# Altium footprint library imx8mnano.PcbLib: 57 footprints (part 2 of 4)
Each footprint in its own frame and in the unit in brackets; x right, y up, seen from the top. Pads: shape width x height; smd on the part's side, far side on the other; paste and mask are expansions set on the pad; w line width, h text height; cw(c..) or ccw(c..) is an arc to the next point about the centre after c.
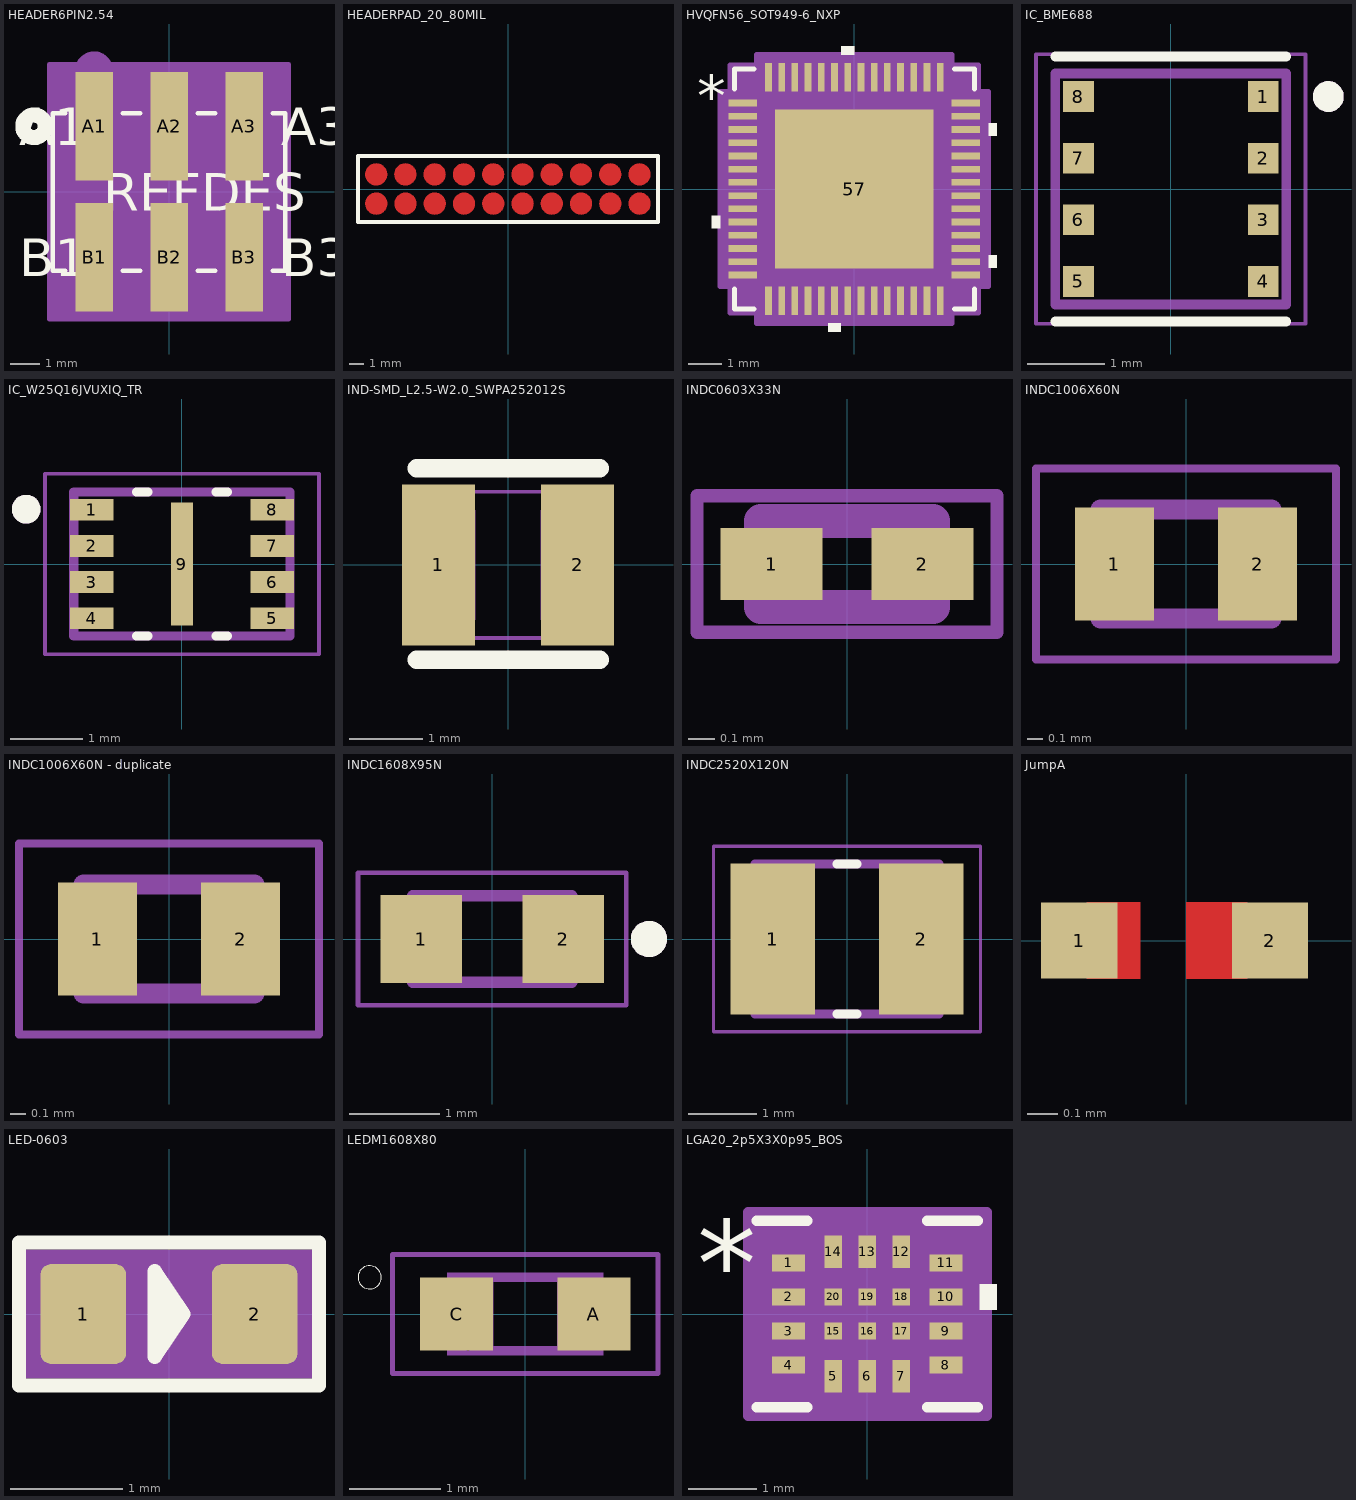
[diagram p1: the footprints below, top view; thin cyan lines are the x and y axes]

## HEADER6PIN2.54 [mil]
pads (6):
  rect 50x145 smd paste+0 mask+0: A1(-100,87.4) A2(0,87.4) A3(100,87.4) B1(-100,-87.4) B2(0,-87.4) B3(100,-87.4)
Top Overlay:
  circle w20: c-180,87.4 r15
  lines w6: -138.1,-105 -155,-105 -155,105 -138.1,105 ; -61.9,-105 -38.1,-105 ; -61.9,105 -38.1,105 ; 38.1,-105 61.9,-105 ; 38.1,105 61.9,105 ; 138.1,-105 155,-105 155,105 138.1,105
  text "A1" at -200,62.4 h50
  text "B1" at -200,-112.4 h50
  text "A3" at 150,62.4 h50
  text "B3" at 150,-112.4 h50
  text "REFDES" at -87.5,-25 h50
Bottom Overlay:
  circle w20: c-180,87.4 r15
  text "A1" at -150,62.4 h50
  text "B1" at -150,-112.4 h50
  text "A3" at 200,62.4 h50
  text "B3" at 200,-112.4 h50
Mechanical 13:
  circle w20: c-100,162.4 r15
  lines w1: -150,-100 150,-100 150,100 -150,100 -150,-100
  text "A1" at -200,62.4 h50
  text "B1" at -200,-112.4 h50
  text "A3" at 150,62.4 h50
  text "B3" at 150,-112.4 h50
  text "RefDes2" at -87.5,-25 h50
Mechanical 15:
  region: 160,169.9 -160,169.9 -160,-169.9 160,-169.9
  region: 150,159.9 -150,159.9 -150,-159.9 150,-159.9
  lines w6: -160,-169.9 -160,169.9 160,169.9 160,-169.9 -160,-169.9
3D body "015910060.stp": height 381, standoff 1, extent -146,-138 154,137

## HEADERPAD_20_80MIL [mil]
pads (20):
  round 1 smd: 1(-360.28,40.45) 2(-280.56,40.45) 3(-200.56,40.45) 4(-120.56,40.45) 5(-40.56,40.45) 6(39.72,40.45) 7(119.44,40.45) 8(199.44,40.45) 9(279.44,40.45) 10(359.44,40.45) 11(-360,-39.55) 12(-280.28,-39.55) 13(-200.28,-39.55) 14(-120.28,-39.55) 15(-40.28,-39.55) 16(40,-39.55) 17(119.72,-39.55) 18(199.72,-39.55) 19(279.72,-39.55) 20(359.72,-39.55)
Top Layer:
  drawing of 20 lines, arcs and shapes, not listed
Top Overlay:
  lines w10: -410,-89.55 410,-89.55 410,90.45 -410,90.45 -410,-89.55

## HVQFN56_SOT949-6_NXP [mil]
pads (57):
  rect 34x8 smd paste+0 mask+0: 1(-133,102.36) 2(-133,86.61) 3(-133,70.87) 4(-133,55.12) 5(-133,39.37) 6(-133,23.62) 7(-133,7.87) 8(-133,-7.87) 9(-133,-23.62) 10(-133,-39.37) 11(-133,-55.12) 12(-133,-70.87) 13(-133,-86.61) 14(-133,-102.36) 29(133,-102.36) 30(133,-86.61) 31(133,-70.87) 32(133,-55.12) 33(133,-39.37) 34(133,-23.62) 35(133,-7.87) 36(133,7.87) 37(133,23.62) 38(133,39.37) 39(133,55.12) 40(133,70.87) 41(133,86.61) 42(133,102.36)
  rect 8x34 smd paste+0 mask+0: 15(-102.36,-133) 16(-86.61,-133) 17(-70.87,-133) 18(-55.12,-133) 19(-39.37,-133) 20(-23.62,-133) 21(-7.87,-133) 22(7.87,-133) 23(23.62,-133) 24(39.37,-133) 25(55.12,-133) 26(70.87,-133) 27(86.61,-133) 28(102.36,-133) 43(102.36,133) 44(86.61,133) 45(70.87,133) 46(55.12,133) 47(39.37,133) 48(23.62,133) 49(7.87,133) 50(-7.87,133) 51(-23.62,133) 52(-39.37,133) 53(-55.12,133) 54(-70.87,133) 55(-86.61,133) 56(-102.36,133)
  rect 189x189 smd paste-94.5 mask+0: 57(0,0)
Top Overlay:
  region: -160,-31.87 -170,-31.87 -170,-46.87 -160,-46.87
  region: -16.12,-160 -31.12,-160 -31.12,-170 -16.12,-170
  region: 160,-79.11 170,-79.11 170,-94.11 160,-94.11
  region: 160,78.37 170,78.37 170,63.37 160,63.37
  region: -0.37,160 -15.37,160 -15.37,170 -0.37,170
  lines w6: -143,-119.46 -143,-143 -119.46,-143 ; -143,119.46 -143,143 -119.46,143 ; 119.46,-143 143,-143 143,-119.46 ; 119.46,143 143,143 143,119.46
  text "*" at -187.5,85.24 h50
Top Paste:
  region: -35.44,90.56 -90.56,90.56 -90.56,35.44 -35.44,35.44
  region: -35.44,27.56 -90.56,27.56 -90.56,-27.56 -35.44,-27.56
  region: -35.44,-35.44 -90.56,-35.44 -90.56,-90.56 -35.44,-90.56
  region: 27.56,90.56 -27.56,90.56 -27.56,35.44 27.56,35.44
  region: 27.56,27.56 -27.56,27.56 -27.56,-27.56 27.56,-27.56
  region: 27.56,-35.44 -27.56,-35.44 -27.56,-90.56 27.56,-90.56
  region: 90.56,90.56 35.44,90.56 35.44,35.44 90.56,35.44
  region: 90.56,27.56 35.44,27.56 35.44,-27.56 90.56,-27.56
  region: 90.56,-35.44 35.44,-35.44 35.44,-90.56 90.56,-90.56
Mechanical 13:
  lines w1: -138,88 -88,138 ; -138,-138 138,-138 138,138 -138,138 -138,-138 ; -138,-107.36 -138,-97.36 -138,-107.36 ; -138,-91.61 -138,-81.61 -138,-91.61 ; -138,-75.87 -138,-65.87 -138,-75.87 ; -138,-60.12 -138,-50.12 -138,-60.12 ; -138,-44.37 -138,-34.37 -138,-44.37 ; -138,-28.62 -138,-18.62 -138,-28.62 ; -138,-12.87 -138,-2.87 -138,-12.87 ; -138,2.87 -138,12.87 -138,2.87 ; -138,18.62 -138,28.62 -138,18.62 ; -138,34.37 -138,44.37 -138,34.37 ; -138,50.12 -138,60.12 -138,50.12 ; -138,65.87 -138,75.87 -138,65.87 ; -138,81.61 -138,91.61 -138,81.61 ; -138,97.36 -138,107.36 -138,97.36 ; -107.36,-138 -97.36,-138 -107.36,-138 ; -107.36,138 -97.36,138 -107.36,138 ; -91.61,-138 -81.61,-138 -91.61,-138 ; -91.61,138 -81.61,138 -91.61,138 ; -75.87,-138 -65.87,-138 -75.87,-138 ; -75.87,138 -65.87,138 -75.87,138 ; -60.12,-138 -50.12,-138 -60.12,-138 ; -60.12,138 -50.12,138 -60.12,138 ; -44.37,-138 -34.37,-138 -44.37,-138 ; -44.37,138 -34.37,138 -44.37,138 ; -28.62,-138 -18.62,-138 -28.62,-138 ; -28.62,138 -18.62,138 -28.62,138 ; -12.87,-138 -2.87,-138 -12.87,-138 ; -12.87,138 -2.87,138 -12.87,138 ; 2.87,-138 12.87,-138 2.87,-138 ; 2.87,138 12.87,138 2.87,138 ; 18.62,-138 28.62,-138 18.62,-138 ; 18.62,138 28.62,138 18.62,138 ; 34.37,-138 44.37,-138 34.37,-138 ; 34.37,138 44.37,138 34.37,138 ; 50.12,-138 60.12,-138 50.12,-138 ; 50.12,138 60.12,138 50.12,138 ; 65.87,-138 75.87,-138 65.87,-138 ; 65.87,138 75.87,138 65.87,138 ; 81.61,-138 91.61,-138 81.61,-138 ; 81.61,138 91.61,138 81.61,138 ; 97.36,-138 107.36,-138 97.36,-138 ; 97.36,138 107.36,138 97.36,138 ; 138,-107.36 138,-97.36 138,-107.36 ; 138,-91.61 138,-81.61 138,-91.61 ; 138,-75.87 138,-65.87 138,-75.87 ; 138,-60.12 138,-50.12 138,-60.12 ; 138,-44.37 138,-34.37 138,-44.37 ; 138,-28.62 138,-18.62 138,-28.62 ; 138,-12.87 138,-2.87 138,-12.87 ; 138,2.87 138,12.87 138,2.87 ; 138,18.62 138,28.62 138,18.62 ; 138,34.37 138,44.37 138,34.37 ; 138,50.12 138,60.12 138,50.12 ; 138,65.87 138,75.87 138,65.87 ; 138,81.61 138,91.61 138,81.61 ; 138,97.36 138,107.36 138,97.36
  text "*" at -128.5,85.24 h50
Mechanical 15:
  region: -116.36,-148 -148,-148 -148,-116.36 -160,-116.36 -160,116.36 -148,116.36 -148,148 -116.36,148 -116.36,160 116.36,160 116.36,148 148,148 148,116.36 160,116.36 160,-116.36 148,-116.36 148,-148 116.36,-148 116.36,-160 -116.36,-160
  lines w6: -160,-116.36 -148,-116.36 -148,-148 -116.36,-148 -116.36,-160 116.36,-160 116.36,-148 148,-148 148,-116.36 160,-116.36 160,116.36 148,116.36 148,148 116.36,148 116.36,160 -116.36,160 -116.36,148 -148,148 -148,116.36 -160,116.36 -160,-116.36
3D body "HVQFN56_SOT949-6_NXP.step": height 39.09, standoff 0, extent -137.99,-137.99 137.99,137.99

## IC_BME688 [mm]
pads (8):
  rect 0.4x0.4 smd: 1(1.2,1.2) 2(1.2,0.4) 3(1.2,-0.4) 4(1.2,-1.2) 5(-1.2,-1.2) 6(-1.2,-0.4) 7(-1.2,0.4) 8(-1.2,1.2)
Top Overlay:
  circle w0.2: c2.045,1.2 r0.1
  lines w0.127: -1.5,-1.72 1.5,-1.72 ; -1.5,1.72 1.5,1.72
Mechanical 13:
  circle w0.2: c2.045,1.2 r0.1
  lines w0.127: -1.5,-1.5 1.5,-1.5 1.5,1.5 -1.5,1.5 -1.5,-1.5
Mechanical 15:
  lines w0.05: -1.75,-1.75 -1.75,1.75 1.75,1.75 1.75,-1.75 -1.75,-1.75
3D body "BME688--3DModel-STEP-56544.STEP": height 1, standoff 0, extent -1.5,-1.5 1.5,1.5

## IC_W25Q16JVUXIQ_TR [mm]
height 0.6
pads (9):
  rect 0.6x0.3 smd paste-1: 1(-1.25,0.75) 2(-1.25,0.25) 3(-1.25,-0.25) 4(-1.25,-0.75) 5(1.25,-0.75) 6(1.25,-0.25) 7(1.25,0.25) 8(1.25,0.75)
  rect 0.3x1.7 smd paste-2: 9(0,0)
Top Overlay:
  circle w0.2: c-2.16,0.76 r0.1
  lines w0.127: -0.63,-1 -0.47,-1 ; -0.63,1 -0.47,1 ; 0.47,-1 0.63,-1 ; 0.47,1 0.63,1
Top Paste:
  region: 0.1,-0.6 -0.1,-0.6 -0.1,-0.1 0.1,-0.1
  region: 0.1,0.1 -0.1,0.1 -0.1,0.6 0.1,0.6
  region: 1.65,-0.85 1.1,-0.85 1.1,-0.65 1.65,-0.65
  region: 1.65,-0.35 1.1,-0.35 1.1,-0.15 1.65,-0.15
  region: 1.65,0.15 1.1,0.15 1.1,0.35 1.65,0.35
  region: 1.65,0.65 1.1,0.65 1.1,0.85 1.65,0.85
  region: -1.1,-0.85 -1.65,-0.85 -1.65,-0.65 -1.1,-0.65
  region: -1.1,-0.35 -1.65,-0.35 -1.65,-0.15 -1.1,-0.15
  region: -1.1,0.15 -1.65,0.15 -1.65,0.35 -1.1,0.35
  region: -1.1,0.65 -1.65,0.65 -1.65,0.85 -1.1,0.85
Mechanical 13:
  circle w0.2: c-2.16,0.76 r0.1
  lines w0.127: -1.5,-1 1.5,-1 1.5,1 -1.5,1 -1.5,-1
Mechanical 15:
  lines w0.05: -1.9,-1.25 1.9,-1.25 1.9,1.25 -1.9,1.25 -1.9,-1.25
3D body "step_temp.STEP": height 0.6, standoff 0, extent -1.5,-1 1.5,1

## IND-SMD_L2.5-W2.0_SWPA252012S [mm]
pads (2):
  rect 1x2.2 smd: 1(-0.95,0) 2(0.95,0)
Top Overlay:
  lines w0.254: -1.245,-1.295 1.255,-1.295 ; -1.245,1.321 1.255,1.321
Mechanical 15:
  region: -1.25,0.75 -0.45,0.75 -0.45,-0.75 -1.25,-0.75
  region: 0.45,0.75 1.25,0.75 1.25,-0.75 0.45,-0.75
  region: -1.19,-1 -1.19,-0.975 -1.225,-0.94 -1.275,-0.94 -1.31,-0.975 -1.31,-1 -1.31,-1.025 -1.275,-1.06 -1.225,-1.06 -1.19,-1.025
  lines w0.051: -1.25,-1 -1.25,1 1.25,1 1.25,-1 -1.25,-1
3D body "L_1008_2520Metric.step": height 1.2, standoff 0, extent -1.25,-1 1.25,1

## IND_SPH2520 [mil]

## INDC0603X33N [mm]
pads (2):
  rect 0.38x0.269 smd mask+0.051: 1(-0.281,0) 2(0.281,0)
Mechanical 13:
  lines w0.127: -0.32,-0.16 0.32,-0.16 0.32,0.16 -0.32,0.16 -0.32,-0.16
Mechanical 15:
  lines w0.05: -0.559,-0.254 0.559,-0.254 0.559,0.254 -0.559,0.254 -0.559,-0.254
3D body "INDC0603X33N.step": height 0.33, standoff 0, extent -0.3,-0.15 0.3,0.15

## INDC1006X60N [mm]
pads (2):
  rect 0.51x0.73 smd: 1(-0.46,0) 2(0.46,0)
Mechanical 13:
  lines w0.127: -0.55,-0.35 0.55,-0.35 0.55,0.35 -0.55,0.35 -0.55,-0.35
Mechanical 15:
  lines w0.05: -0.965,-0.615 0.965,-0.615 0.965,0.615 -0.965,0.615 -0.965,-0.615
3D body "step_temp.STEP": height 0.6, standoff 0, extent -0.5,-0.3 0.5,0.3

## INDC1006X60N - duplicate [mm]
pads (2):
  rect 0.51x0.73 smd: 1(-0.46,0) 2(0.46,0)
Mechanical 13:
  lines w0.127: -0.55,-0.35 0.55,-0.35 0.55,0.35 -0.55,0.35 -0.55,-0.35
Mechanical 15:
  lines w0.05: -0.965,-0.615 0.965,-0.615 0.965,0.615 -0.965,0.615 -0.965,-0.615
3D body "step_temp.STEP": height 0.6, standoff 0, extent -0.5,-0.3 0.5,0.3

## INDC1608X95N [mm]
pads (2):
  rect 0.9x0.97 smd: 1(-0.785,0) 2(0.785,0)
Top Overlay:
  circle w0.2: c1.735,0 r0.1
Mechanical 13:
  circle w0.2: c1.735,0 r0.1
  lines w0.127: -0.88,-0.48 0.88,-0.48 0.88,0.48 -0.88,0.48 -0.88,-0.48
Mechanical 15:
  lines w0.05: -1.485,-0.735 1.485,-0.735 1.485,0.735 -1.485,0.735 -1.485,-0.735
3D body "INDC1608X95N.step": height 0.95, standoff 0, extent -0.8,-0.4 0.8,0.4

## INDC2520X120N [mm]
pads (2):
  rect 1.24x2.22 smd: 1(-1.09,0) 2(1.09,0)
Top Overlay:
  lines w0.127: -0.15,-1.1 0.15,-1.1 ; -0.15,1.1 0.15,1.1
Mechanical 13:
  lines w0.127: -1.35,-1.1 -1.35,1.1 1.35,1.1 1.35,-1.1 -1.35,-1.1
Mechanical 15:
  lines w0.05: -1.958,-1.358 -1.958,1.358 1.958,1.358 1.958,-1.358 -1.958,-1.358
3D body "step_temp.STEP": height 1.2, standoff 0, extent -1.25,-1 1.25,1

## JumpA [mil]
pads (2):
  rect 10x10 smd: 1(-14,0) 2(11,0)
Top Layer:
  region: 0,-5 8,-5 8,5 0,5 0,4 0,0 0,-4
  region: -13,5 -6,5 -6,-5 -13,-5
Top Solder:
  rectangle: -19.66,-7.56 19.65,7.96

## LED-0603 [mil]
pads (2):
  rrect25% 30x35 smd: 1(-30,0) 2(30,0)
Top Overlay:
  lines w5: 0,-7.5 0,7.5 ; 0,-7.5 5,0 0,7.5 ; 0,-7.5 -5,-15 -5,15 0,7.5 ; -52.5,-25 -52.5,25 52.5,25 52.5,-25 -52.5,-25
Mechanical 15:
  region: 50,-22.52 -50.04,-22.52 -50.04,22.5 50,22.5
3D body "0603 Chip SMD LED (1.6x0.8mm).STEP": height 21.65, standoff -0.98, extent -31.5,-15.75 31.5,15.75

## LEDM1608X80 [mm]
pads (2):
  rect 0.8x0.8 smd: A(0.75,0) C(-0.75,0)
Top Overlay:
  circle w0: c-1.7,0.4 r0.127
Mechanical 13:
  circle w0.051: c-0.625,-0.35 r0.075
  region: 0.65,0.175 0.55,0.175 0.55,0.275 0.65,0.275
  region: 0.651,-0.275 0.55,-0.275 0.55,-0.176 0.651,-0.176
  region: 0.575,-0.275 0.35,-0.275 0.35,0.275 0.575,0.275
  region: 0.85,0.25 0.35,0.25 0.35,0.45 0.85,0.45
  region: 0.85,-0.45 0.35,-0.45 0.35,-0.25 0.85,-0.25
  region: -0.351,-0.451 -0.576,-0.451 -0.576,0.451 -0.351,0.451
  region: -0.55,0.25 -0.85,0.25 -0.85,0.45 -0.55,0.45
  region: -0.35,-0.451 -0.726,-0.451 -0.726,-0.4 -0.35,-0.4
  region: -0.55,-0.275 -0.6,-0.275 -0.6,-0.225 -0.55,-0.225
  region: -0.7,-0.451 -0.851,-0.451 -0.851,-0.25 -0.7,-0.25
  lines w0.051: 0.825,-0.275 cw(c0.825,0) 0.825,0.275
  lines w0.102: -0.8,-0.3 ccw(c-0.826,0) -0.8,0.3 ; -0.375,-0.4 0.35,-0.4 ; -0.35,0.4 0.35,0.4
Mechanical 15:
  lines w0.05: -1.45,-0.65 -1.45,0.65 1.45,0.65 1.45,-0.65 -1.45,-0.65
3D body "step_temp.STEP": height 0.8, standoff 0, extent -0.8,-0.4 0.8,0.4

## LGA20_2p5X3X0p95_BOS [mil]
pads (20):
  rect 19x10 smd paste+0 mask+0: 1(-45.5,29.53) 2(-45.5,9.84) 3(-45.5,-9.84) 4(-45.5,-29.53) 8(45.5,-29.53) 9(45.5,-9.84) 10(45.5,9.84) 11(45.5,29.53)
  rect 10x19 smd paste+0 mask+0: 5(-19.68,-36) 6(0,-36) 7(19.68,-36) 12(19.68,36) 13(0,36) 14(-19.68,36)
  rect 10x10 smd paste+0 mask+0: 15(-19.68,-9.84) 16(0,-9.84) 17(19.69,-9.84) 18(19.68,9.84) 19(0,9.84) 20(-19.68,9.84)
Top Overlay:
  region: 65,17.34 75,17.34 75,2.34 65,2.34
  lines w6: -64,-54 -34.65,-54 ; -64,54 -34.65,54 ; 34.65,-54 64,-54 ; 34.65,54 64,54
  text "*" at -98.5,4.53 h50
Mechanical 13:
  lines w1: -59,-1 -9,49 ; -59,-49 59,-49 59,49 -59,49 -59,-49 ; -59,-34.53 -59,-24.53 -55,-24.53 -55,-34.53 -59,-34.53 ; -59,-14.84 -59,-4.84 -55,-4.84 -55,-14.84 -59,-14.84 ; -59,4.84 -59,14.84 -55,14.84 -55,4.84 -59,4.84 ; -59,24.53 -59,34.53 -55,34.53 -55,24.53 -59,24.53 ; -24.68,-49 -14.69,-49 -14.69,-45.5 -24.68,-45.5 -24.68,-49 ; -24.68,45.5 -14.69,45.5 -14.69,49 -24.68,49 -24.68,45.5 ; -5,-49 5,-49 5,-45.5 -5,-45.5 -5,-49 ; -5,45.5 5,45.5 5,49 -5,49 -5,45.5 ; 14.69,-49 24.68,-49 24.68,-45.5 14.69,-45.5 14.69,-49 ; 14.69,45.5 24.68,45.5 24.68,49 14.69,49 14.69,45.5 ; 55,-34.53 59,-34.53 59,-24.53 55,-24.53 55,-34.53 ; 55,-14.84 59,-14.84 59,-4.84 55,-4.84 55,-14.84 ; 55,4.84 59,4.84 59,14.84 55,14.84 55,4.84 ; 55,24.53 59,24.53 59,34.53 55,34.53 55,24.53
  text "*" at -17.5,4.53 h50
Mechanical 15:
  region: -34.69,-59 -69,-59 -69,-44.53 -69,44.53 -69,59 -34.69,59 34.69,59 69,59 69,44.53 69,-44.53 69,-59 34.69,-59
  lines w6: -69,-59 -69,-44.53 -69,44.53 -69,59 -34.69,59 34.69,59 69,59 69,44.53 69,-44.53 69,-59 34.69,-59 -34.69,-59 -69,-59
3D body "LGA20_2p5X3X0p95_BOS.step": height 39.09, standoff 0, extent -59.02,-49.02 59.02,49.02